# EAGLE library part LM3886 (library lmopamp2)
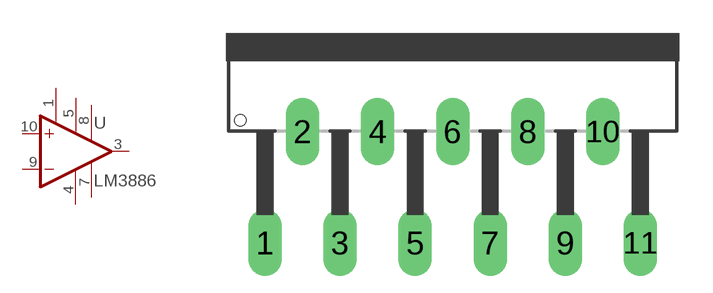
[diagram p0: symbol with the pads of LM3886; footprint LM3886]

Designator prefix -

## LM3886  [LM3886]
1  5
3  OUT  out
4  V-  pwr
5  V+  pwr
7  7
8  8
9  -IN  in
10  +IN  in

## Footprint LM3886 (pad centres in mm)
drill 1.016 long: 1 -22.479,3.175; 2 -20.777,8.23; 3 -19.075,3.175; 4 -17.374,8.23; 5 -15.672,3.175; 6 -13.97,8.23; 7 -12.268,3.175; 8 -10.566,8.23; 9 -8.865,3.175; 10 -7.163,8.23; 11 -5.461,3.175